# EAGLE library part SW-DPDT (library dpx-SWITCH)
DPDT Version of the COM-00597
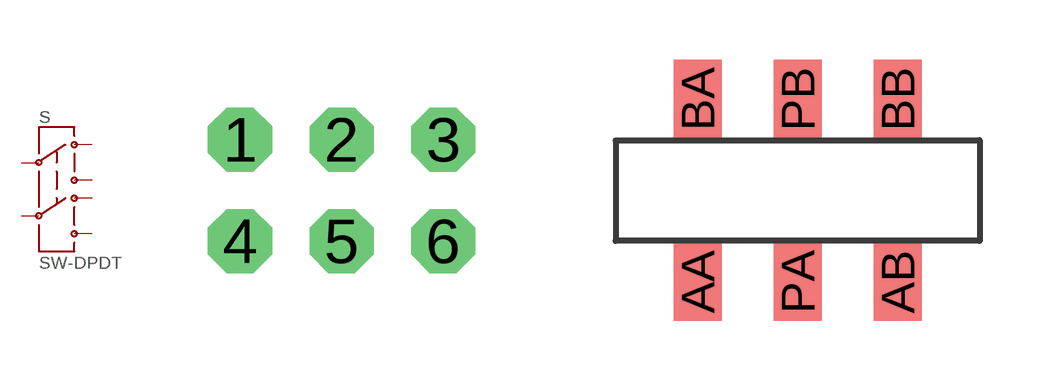
[diagram p1: symbol with the pads of DPDT; footprints DPDT, SW-SMD]

Designator prefix S

## SW-DPDT  [DPDT]
1  3-1A
2  1-I1
3  4-1B
4  5-2A
5  2-I2
6  6-2B

## SW-DPDTSW_SMD  [SW-SMD]
AA  3-1A
AB  5-2A
BA  4-1B
BB  6-2B
PA  1-I1
PB  2-I2

## SW-DPDTJS202011JCQN (LCPART: C221665)  [SW-SMD-202211JCQN]
1-(AA)  3-1A
2-(AC)  1-I1
3-(AB)  4-1B
5-(BA)  5-2A
6-(BC)  2-I2
7-(BB)  6-2B

## SW-DPDTJAQN (LCPART: C221664; MOUSER: https://www.mouser.co.uk/ProductDetail/CK/JS102011JAQN?qs=74EMXstkWMXlgU381lCnfQ%3D%3D)  [SW-SMD-JS102011JAQN]
Pads as for SW-SMD-202211JCQN

## Footprint DPDT (pad centres in mm)
drill 0.813 pad 1.6 octagon: 1 -2.54,1.27; 2 0,1.27; 3 2.54,1.27; 4 -2.54,-1.27; 5 0,-1.27; 6 2.54,-1.27

## Footprint SW-SMD (pad centres in mm)
smd 1.2 x 1.95: AA -2.5,-2.285; AB 2.5,-2.285; BA -2.5,2.285; BB 2.5,2.285; PA 0,-2.285; PB 0,2.285

## Footprint SW-SMD-202211JCQN (pad centres in mm)
smd 1 x 1.6: 1-(AA) -2.5,-1.6; 2-(AC) 0,-1.6; 3-(AB) 2.5,-1.6; 5-(BA) -2.5,1.6; 6-(BC) 0,1.6; 7-(BB) 2.5,1.6

## Footprint SW-SMD-JS102011JAQN (pad centres in mm)
JS102011JAQN-2
smd 1 x 1.6: 1-(AA) -2.5,-1.2; 2-(AC) 0,-1.2; 3-(AB) 2.5,-1.2; 5-(BA) -2.5,1.2; 6-(BC) 0,1.2; 7-(BB) 2.5,1.2
hole 0.9 at -3.4,0
hole 0.9 at 3.4,0